# EAGLE library part ADC-MAX11901 (library ds_ic_peripherals)
16-Bit, 1.6Msps, Low-Power, Fully Differential SAR ADC
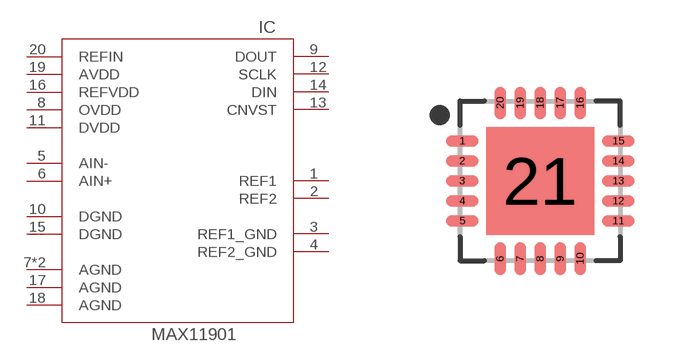
[diagram p19: symbol with the pads of QFN50P400X400X75-21T270N; footprint QFN50P400X400X75-21T270N]

Designator prefix IC

## ADC-MAX11901TQFN20  [QFN50P400X400X75-21T270N]
1  REF1
2  REF2
3  REF1_GND
4  REF2_GND
5  AIN-
6  AIN+
7  AGND
8  OVDD
9  DOUT
10  DGND
11  DVDD
12  SCLK
13  CNVST
14  DIN
15  DGND
16  REFVDD
17  AGND
18  AGND
19  AVDD
20  REFIN
21  AGND

## Footprint QFN50P400X400X75-21T270N (pad centres in mm)
20-QFN, 0.50 mm pitch, 4.00 X 4.00 X 0.75 mm body, 2.70 X 2.70 mm thermal pad 20-pin QFN package with 0.50 mm pitch with body size 4.00 X 4.00 X 0.75 mm and thermal pad size 2.70 X 2.70 mm
smd 0.812 x 0.282: 1 -1.95,1; 2 -1.95,0.5; 3 -1.95,0; 4 -1.95,-0.5; 5 -1.95,-1; 11 1.95,-1; 12 1.95,-0.5; 13 1.95,0; 14 1.95,0.5; 15 1.95,1
smd 0.282 x 0.812: 6 -1,-1.95; 7 -0.5,-1.95; 8 0,-1.95; 9 0.5,-1.95; 10 1,-1.95; 16 1,1.95; 17 0.5,1.95; 18 0,1.95; 19 -0.5,1.95; 20 -1,1.95
smd 2.7 x 2.7: 21 0,0